# EAGLE library part PCA9956BTWY (library mbed-HDK-IC)
24 CHANNEL PWM LED DRIVER, 65mA/Channel
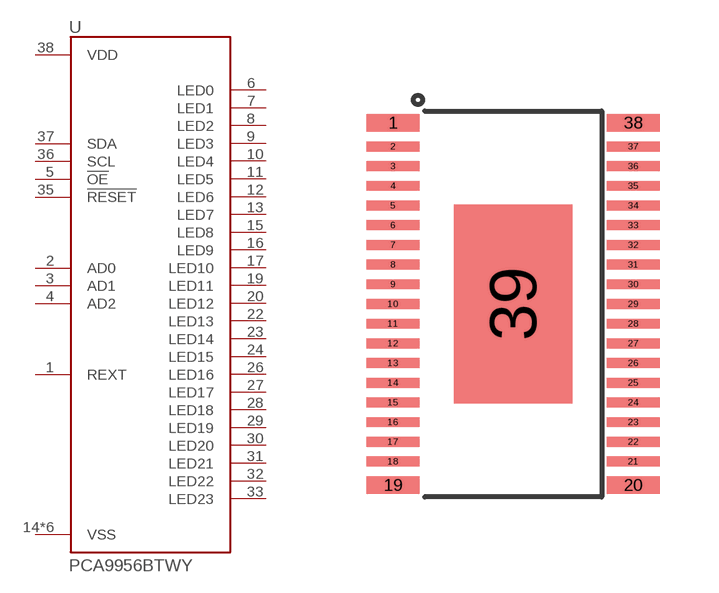
[diagram p21: symbol with the pads of HTSSOP38; footprint HTSSOP38]

Designator prefix U

## PCA9956BTWY (MF: NXP USA Inc.; MFN: PCA9956BTWY; OC-DIGIKEY: 568-12502-1-ND; OC-MOUSER: 771-PCA9956BTWY; OC-NEWARK: 2759860)  [HTSSOP38]
1  REXT
2  AD0
3  AD1
4  AD2
5  !OE
6  LED0
7  LED1
8  LED2
9  LED3
10  LED4
11  LED5
12  LED6
13  LED7
14  VSS
15  LED8
16  LED9
17  LED10
18  VSS
19  LED11
20  LED12
21  VSS
22  LED13
23  LED14
24  LED15
25  VSS
26  LED16
27  LED17
28  LED18
29  LED19
30  LED20
31  LED21
32  LED22
33  LED23
34  VSS
35  !RESET
36  SCL
37  SDA
38  VDD
39  VSS

## Footprint HTSSOP38 (pad centres in mm)
smd 1.35 x 0.45: 1 0,0; 19 0,-9.2; 20 6.1,-9.2; 38 6.1,0
smd 1.35 x 0.25: 2 0,-0.6; 3 0,-1.1; 4 0,-1.6; 5 0,-2.1; 6 0,-2.6; 7 0,-3.1; 8 0,-3.6; 9 0,-4.1; 10 0,-4.6; 11 0,-5.1; 12 0,-5.6; 13 0,-6.1; 14 0,-6.6; 15 0,-7.1; 16 0,-7.6; 17 0,-8.1; 18 0,-8.6; 21 6.1,-8.6; 22 6.1,-8.1; 23 6.1,-7.6; 24 6.1,-7.1; 25 6.1,-6.6; 26 6.1,-6.1; 27 6.1,-5.6; 28 6.1,-5.1; 29 6.1,-4.6; 30 6.1,-4.1; 31 6.1,-3.6; 32 6.1,-3.1; 33 6.1,-2.6; 34 6.1,-2.1; 35 6.1,-1.6; 36 6.1,-1.1; 37 6.1,-0.6
smd 3 x 5.04: 39 3.05,-4.6